# EAGLE library part RHD2132_QFN (library RHD2132_QFN)
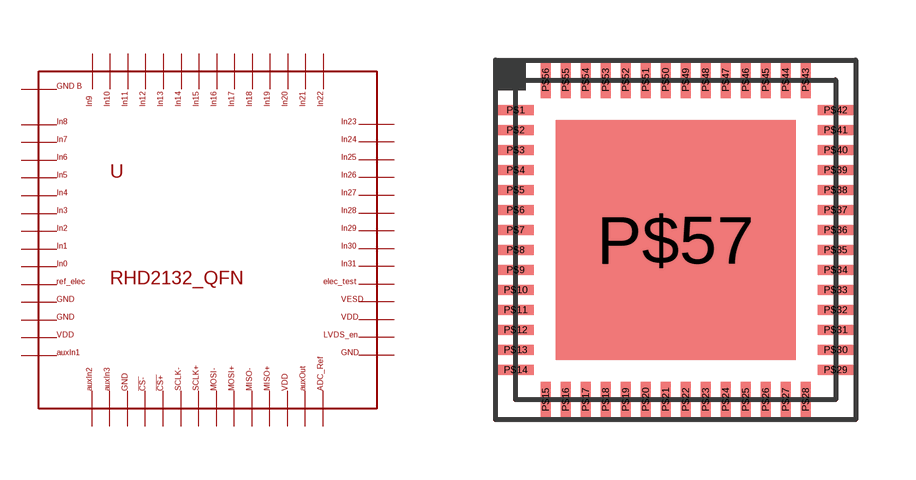
[diagram p0: symbol with the pads of RHD2132_QFN; footprint RHD2132_QFN]

Designator prefix -

## RHD2132_QFN  [RHD2132_QFN]
P$1  P$1  pas
P$2  P$2  pas
P$3  P$3  pas
P$4  P$4  pas
P$5  P$5  pas
P$6  P$6  pas
P$7  P$7  pas
P$8  P$8  pas
P$9  P$9  pas
P$10  P$10  pas
P$11  P$11  pas
P$12  P$12  pas
P$13  P$13  pas
P$14  P$14  pas
P$15  P$15  pas
P$16  P$16  pas
P$17  P$17  pas
P$18  P$18  pas
P$19  P$19  pas
P$20  P$20  pas
P$21  P$21  pas
P$22  P$22  pas
P$23  P$23  pas
P$24  P$24  pas
P$25  P$25  pas
P$26  P$26  pas
P$27  P$27  pas
P$28  P$28  pas
P$29  P$29  pas
P$30  P$30  pas
P$31  P$31  pas
P$32  P$32  pas
P$33  P$33  pas
P$34  P$34  pas
P$35  P$35  pas
P$36  P$36  pas
P$37  P$37  pas
P$38  P$38  pas
P$39  P$39  pas
P$40  P$40  pas
P$41  P$41  pas
P$42  P$42  pas
P$43  P$43  pas
P$44  P$44  pas
P$45  P$45  pas
P$46  P$46  pas
P$47  P$47  pas
P$48  P$48  pas
P$49  P$49  pas
P$50  P$50  pas
P$51  P$51  pas
P$52  P$52  pas
P$53  P$53  pas
P$54  P$54  pas
P$55  P$55  pas
P$56  P$56  pas
P$57  P$57  pas

## Footprint RHD2132_QFN (pad centres in mm)
smd 0.9 x 0.25: P$1 -4,3.25; P$2 -4,2.75; P$3 -4,2.25; P$4 -4,1.75; P$5 -4,1.25; P$6 -4,0.75; P$7 -4,0.25; P$8 -4,-0.25; P$9 -4,-0.75; P$10 -4,-1.25; P$11 -4,-1.75; P$12 -4,-2.25; P$13 -4,-2.75; P$14 -4,-3.25; P$29 4,-3.25; P$30 4,-2.75; P$31 4,-2.25; P$32 4,-1.75; P$33 4,-1.25; P$34 4,-0.75; P$35 4,-0.25; P$36 4,0.25; P$37 4,0.75; P$38 4,1.25; P$39 4,1.75; P$40 4,2.25; P$41 4,2.75; P$42 4,3.25
smd 0.25 x 0.9: P$15 -3.25,-4; P$16 -2.75,-4; P$17 -2.25,-4; P$18 -1.75,-4; P$19 -1.25,-4; P$20 -0.75,-4; P$21 -0.25,-4; P$22 0.25,-4; P$23 0.75,-4; P$24 1.25,-4; P$25 1.75,-4; P$26 2.25,-4; P$27 2.75,-4; P$28 3.25,-4; P$43 3.25,4; P$44 2.75,4; P$45 2.25,4; P$46 1.75,4; P$47 1.25,4; P$48 0.75,4; P$49 0.25,4; P$50 -0.25,4; P$51 -0.75,4; P$52 -1.25,4; P$53 -1.75,4; P$54 -2.25,4; P$55 -2.75,4; P$56 -3.25,4
smd 6 x 6: P$57 0,0